# EAGLE library part 2X_SPST (library Loo)
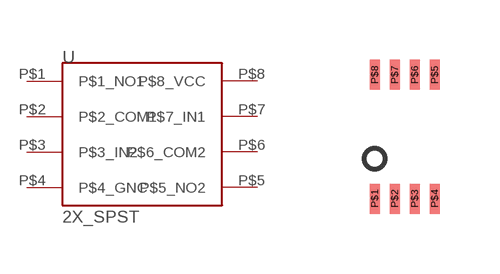
[diagram p1: symbol with the pads of 2X_SPST; footprint 2X_SPST]

Designator prefix -

## 2X_SPST  [2X_SPST]
P$1  P$1_NO1
P$2  P$2_COM1
P$3  P$3_IN2
P$4  P$4_GNC
P$5  P$5_NO2
P$6  P$6_COM2
P$7  P$7_IN1
P$8  P$8_VCC

## Footprint 2X_SPST (pad centres in mm)
smd 0.25 x 0.75: P$1 0,0; P$2 0.5,0; P$3 1,0; P$4 1.5,0; P$5 1.5,3.1; P$6 1,3.1; P$7 0.5,3.1; P$8 0,3.1